# EAGLE library part ACELEROMETER-MPU6050-JST (library Sensores)
Giroscopio de tres ejes y acelerómetro de tres ejes. Fuente de alimentación: 4.3 a 9 V ( regulador de abandono bajo KB33 incorporado ) Modos de comunicación: protocolo de comunicaciones estándar IIC (I2C) Chip incorporado 16 bit ADC convertidor, salida de datos de 16 bits Rango del giroscopio: +/- 250, +/- 500, +/- 1000, +/- 2000 ° / s Rango de aceleración: +/- 2g, +/- 4g, +/- 8g, +/- 16g Dimensiones (excluyendo los pasadores): 21.2 mm (0.84 ") de longitud x 16.4 mm (0.65") de ancho x 3.3 mm (0.13 ") de altura Peso: 2.1g (0.07 oz)
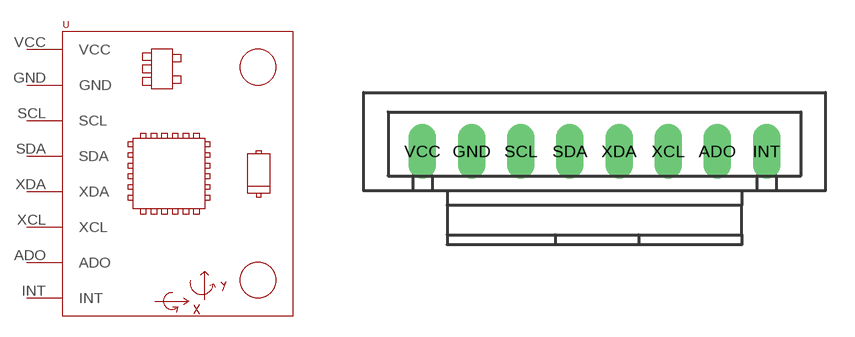
[diagram p1: symbol with the pads of ACELEROMETER-MPU6050-JST; footprint ACELEROMETER-MPU6050-JST]

Designator prefix -

## ACELEROMETER-MPU6050-JST  [ACELEROMETER-MPU6050-JST]
ADO  ADO
GND  GND
INT  INT
SCL  SCL
SDA  SDA
VCC  VCC
XCL  XCL
XDA  XDA

## Footprint ACELEROMETER-MPU6050-JST (pad centres in mm)
drill 0.6 pad 1.422 long: ADO 7.62,0; GND -5.08,0; INT 10.16,0; SCL -2.54,0; SDA 0,0; VCC -7.62,0; XCL 5.08,0; XDA 2.54,0